# EAGLE library part JST-EH-12 (library con-JST-EH)
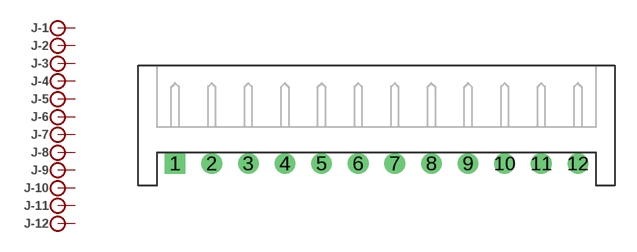
[diagram p1: symbol with the pads of S12B-EH; footprint S12B-EH]

Designator prefix J; gates -1=PIN -2=PIN -3=PIN -4=PIN -5=PIN -6=PIN -7=PIN -8=PIN -9=PIN -10=PIN -11=PIN -12=PIN

## JST-EH-12-THRA (MF: JST; MPN: S12B-EH)  [S12B-EH]
1  -1:P
2  -2:P
3  -3:P
4  -4:P
5  -5:P
6  -6:P
7  -7:P
8  -8:P
9  -9:P
10  -10:P
11  -11:P
12  -12:P

## Footprint S12B-EH (pad centres in mm)
drill 0.9 square: 1 -13.75,-1.5
drill 0.9: 2 -11.25,-1.5; 3 -8.75,-1.5; 4 -6.25,-1.5; 5 -3.75,-1.5; 6 -1.25,-1.5; 7 1.25,-1.5; 8 3.75,-1.5; 9 6.25,-1.5; 10 8.75,-1.5; 11 11.25,-1.5; 12 13.75,-1.5